# EAGLE library part TS21-34-035-BK-160-SMT-TR (library TS21-34-035-BK-160-SMT-TR)
3.4 x 3.4 mm, 0.35 mm Actuator Height, 160 gf, Surface Mount, SPST, Black Illuminated, Tactile Switch Source: Datasheet <https://www.cuidevices.com/product/resource/ts21.pdf>
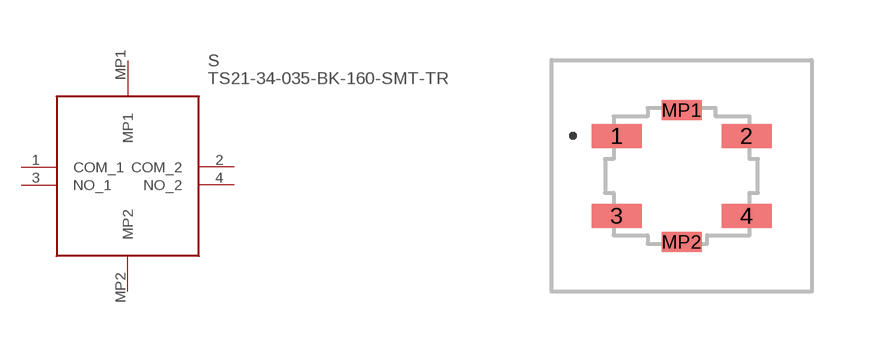
[diagram p0: symbol with the pads of TS2134035BK160SMTTR; footprint TS2134035BK160SMTTR]

Designator prefix S

## TS21-34-035-BK-160-SMT-TR (Description: 3.4 x 3.4 mm, 0.35 mm Actuator Height, 160 gf, Surface Mount, SPST, Black Illuminated, Tactile Switch; Height: 1.7mm; Manufacturer_Name: CUI Devices; Manufacturer_Part_Number: TS21-34-035-BK-160-SMT-TR; Mouser_Part_Number: 179-134035BK160SMTTR; Mouser_Price-Stock: https://www.mouser.co.uk/ProductDetail/CUI-Devices/TS21-34-035-BK-160-SMT-TR?qs=1Kr7Jg1SGW9zzGN58LP5Sg%3D%3D)  [TS2134035BK160SMTTR]
1  COM_1
2  COM_2
3  NO_1
4  NO_2
MP1  MP1
MP2  MP2

## Footprint TS2134035BK160SMTTR (pad centres in mm)
TS21-34-035-BK-160-SMT-TR-4
smd 1.25 x 0.6: 1 -1.625,1; 2 1.625,1; 3 -1.625,-1; 4 1.625,-1
smd 1 x 0.5: MP1 0,1.65; MP2 0,-1.65